# EAGLE library part AD7660 (library analog-devices)
CMOS ADC 16-Bit, 100 kSPS PulSAR, Unipolar
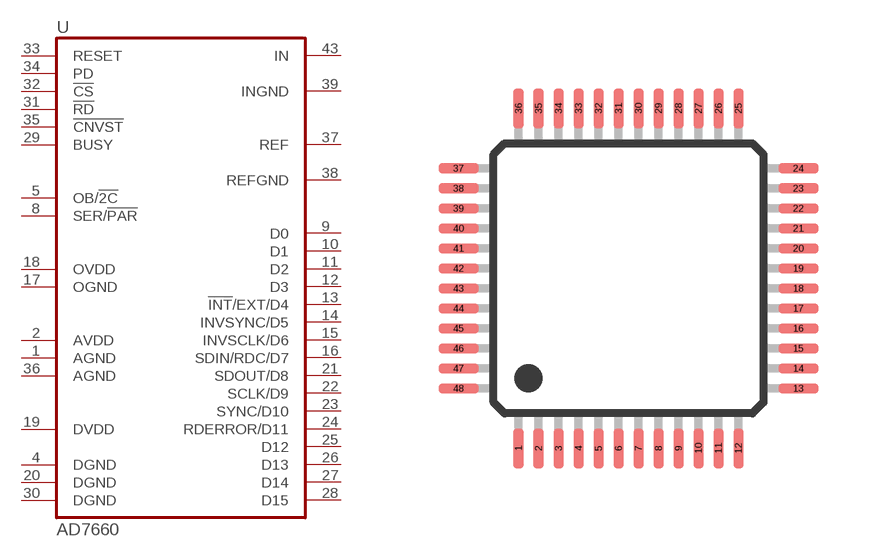
[diagram p69: symbol with the pads of LQFP48; footprint LQFP48]

Designator prefix U

## AD7660ST-48  [LQFP48]
1  AGND  pwr
2  AVDD  pwr
4  DGND  pwr
5  OB/!2C!
8  SER/!PAR!
9  D0
10  D1
11  D2
12  D3
13  !INT!/EXT/D4
14  INVSYNC/D5
15  INVSCLK/D6
16  SDIN/RDC/D7
17  OGND
18  OVDD
19  DVDD
20  DGND
21  SDOUT/D8
22  SCLK/D9
23  SYNC/D10
24  RDERROR/D11
25  D12
26  D13
27  D14
28  D15
29  BUSY  out
30  DGND  pwr
31  !RD!  in
32  !CS!  in
33  RESET  in
34  PD  in
35  !CNVST!  in
36  AGND  pwr
37  REF
38  REFGND  pwr
39  INGND  pwr
43  IN

## Footprint LQFP48 (pad centres in mm)
LQFP48
smd 0.25 x 1: 1 -2.75,-4.25; 2 -2.25,-4.25; 3 -1.75,-4.25; 4 -1.25,-4.25; 5 -0.75,-4.25; 6 -0.25,-4.25; 7 0.25,-4.25; 8 0.75,-4.25; 9 1.25,-4.25; 10 1.75,-4.25; 11 2.25,-4.25; 12 2.75,-4.25; 25 2.75,4.25; 26 2.25,4.25; 27 1.75,4.25; 28 1.25,4.25; 29 0.75,4.25; 30 0.25,4.25; 31 -0.25,4.25; 32 -0.75,4.25; 33 -1.25,4.25; 34 -1.75,4.25; 35 -2.25,4.25; 36 -2.75,4.25
smd 1 x 0.25: 13 4.25,-2.75; 14 4.25,-2.25; 15 4.25,-1.75; 16 4.25,-1.25; 17 4.25,-0.75; 18 4.25,-0.25; 19 4.25,0.25; 20 4.25,0.75; 21 4.25,1.25; 22 4.25,1.75; 23 4.25,2.25; 24 4.25,2.75; 37 -4.25,2.75; 38 -4.25,2.25; 39 -4.25,1.75; 40 -4.25,1.25; 41 -4.25,0.75; 42 -4.25,0.25; 43 -4.25,-0.25; 44 -4.25,-0.75; 45 -4.25,-1.25; 46 -4.25,-1.75; 47 -4.25,-2.25; 48 -4.25,-2.75